# Altium footprint library 430456085736 BTN.PcbLib: 1 footprints
Each footprint in its own frame and in the unit in brackets; x right, y up, seen from the top. Pads: shape width x height; smd on the part's side, far side on the other; paste and mask are expansions set on the pad; w line width, h text height; cw(c..) or ccw(c..) is an arc to the next point about the centre after c.
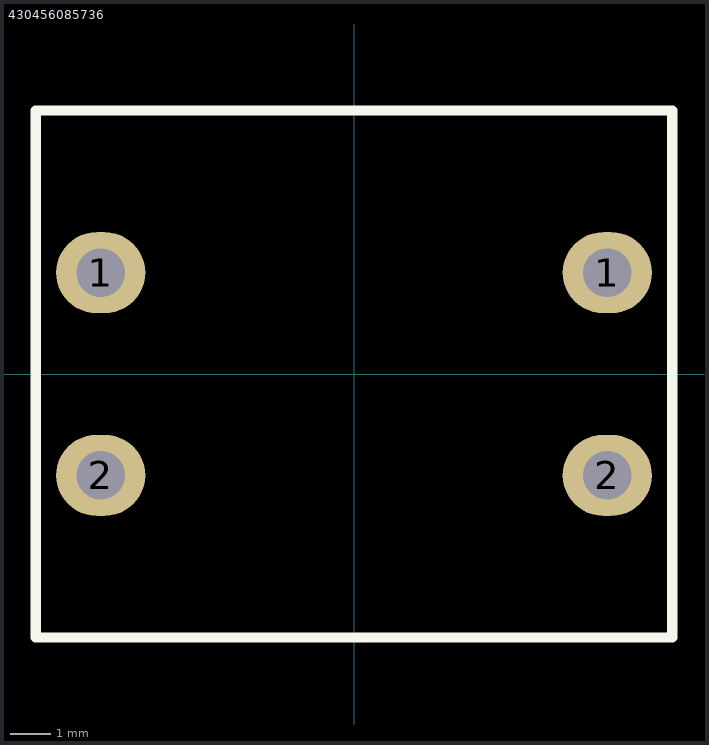
[diagram p0: the footprint, top view; thin cyan lines are the x and y axes]

## 430456085736 [mm]
pads (4):
  oval 2.2x2 hole 1.2: 1(-6.25,2.5) 1(6.25,2.5) 2(-6.25,-2.5) 2(6.25,-2.5)
Top Overlay:
  lines w0.254: -7.85,-6.5 -7.85,-6.35 -7.85,6.5 7.85,6.5 7.85,-6.5 -7.85,-6.5
3D body "430456085736 BTN.stp": height 8.7, standoff -3.3, extent -6.985,-6 6.986,6